# EAGLE library part NPC_OSC_IC (library OSC_IC)
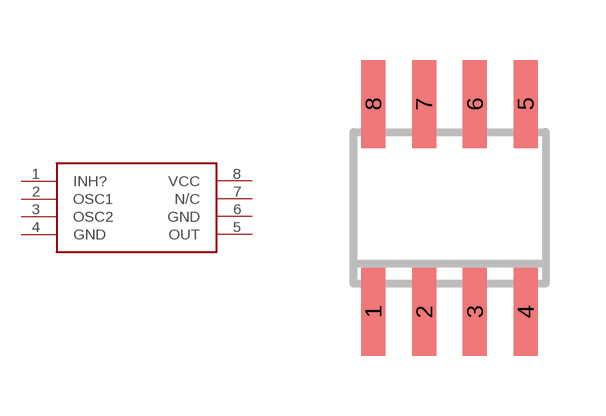
[diagram p0: symbol with the pads of SO-08; footprint SO-08]

Designator prefix -

## NPC_OSC_IC  [SO-08]
1  INH?
2  OSC1
3  OSC2
4  GND
5  OUT
6  GND
7  N/C
8  VCC

## Footprint SO-08 (pad centres in mm)
smd 0.6 x 2.2: 1 -1.905,-2.6; 2 -0.635,-2.6; 3 0.635,-2.6; 4 1.905,-2.6; 5 1.905,2.6; 6 0.635,2.6; 7 -0.635,2.6; 8 -1.905,2.6